# Altium schematic symbol library 10029364-001LF.SchLib: 1 symbol
Pins are listed as number, name and electrical type; pins without a type are passive.

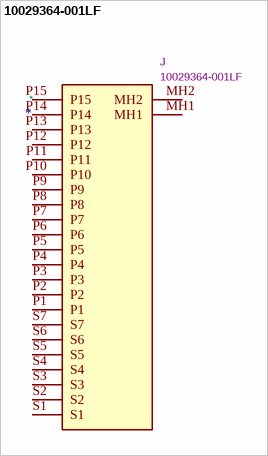
[diagram p0: symbol 10029364-001LF]

## 10029364-001LF
designator *  value 10029364-001LF  Reference: J
Manufacturer_Name: Amphenol; ki_description: I/O Connectors SATA  connector Receptacle Right Angle Surface Mount 22 Positions; Footprint: 10029364001LF; Datasheet: https://cdn.amphenol-cs.com/media/wysiwyg/files/drawing/10029364.pdf; Height: 5.62; Manufacturer_Part_Number: 10029364-001LF
pins: MH1, MH2, P1, P2, P3, P4, P5, P6, P7, P8, P9, P10, P11, P12, P13, P14, P15, S1, S2, S3, S4, S5, S6, S7